# EAGLE library part DG3XX-11 (library degson)
DG350-3.5-11P DG306-5.0-11P
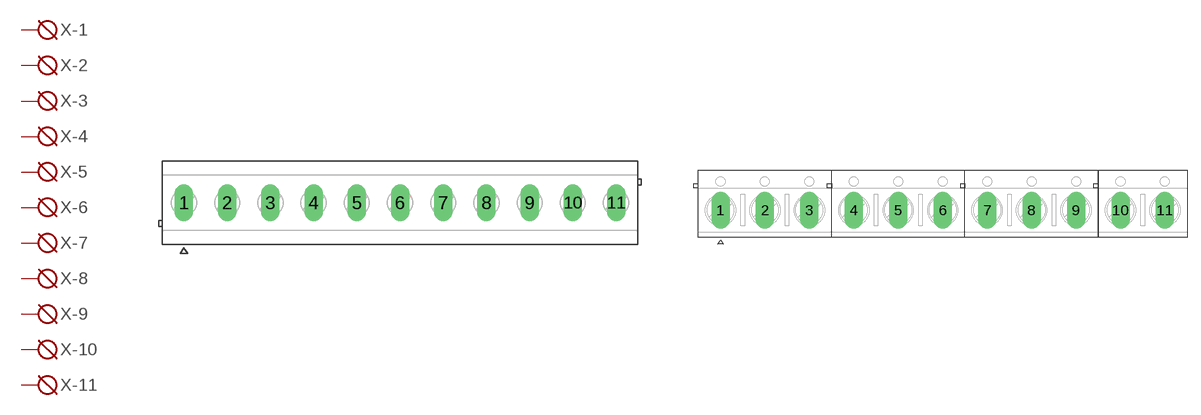
[diagram p5: symbol with the pads of DG350-3.5-11P; footprints DG350-3.5-11P, DG306-5.0-11P]

Designator prefix X; gates -1=KL -2=KL -3=KL -4=KL -5=KL -6=KL -7=KL -8=KL -9=KL -10=KL -11=KL

## DG3XX-11-3.5  [DG350-3.5-11P]
1  -1:KL  pas
2  -2:KL  pas
3  -3:KL  pas
4  -4:KL  pas
5  -5:KL  pas
6  -6:KL  pas
7  -7:KL  pas
8  -8:KL  pas
9  -9:KL  pas
10  -10:KL  pas
11  -11:KL  pas

## DG3XX-11-5.0  [DG306-5.0-11P]
Pads as for DG350-3.5-11P

## Footprint DG350-3.5-11P (pad centres in mm)
drill 1 long: 1 -17.5,0; 2 -14,0; 3 -10.5,0; 4 -7,0; 5 -3.5,0; 6 0,0; 7 3.5,0; 8 7,0; 9 10.5,0; 10 14,0; 11 17.5,0

## Footprint DG306-5.0-11P (pad centres in mm)
drill 1.4 long: 1 -25,0; 2 -20,0; 3 -15,0; 4 -10,0; 5 -5,0; 6 0,0; 7 5,0; 8 10,0; 9 15,0; 10 20,0; 11 25,0